# Altium schematic symbol library LCD_Screen_16x2.SchLib: 2 symbols
Pins are listed as number, name and electrical type; pins without a type are passive.

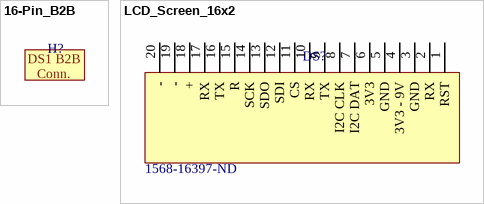
[diagram p0: symbols 16-Pin_B2B to LCD_Screen_16x2]

## 16-Pin_B2B
designator H?  (value not drawn)  (mechanical)
Mechanical Part DW-16-07-T-S-200 for use as board to board connector for DS1; Manufacturer 1: Samtec Inc.; Supplier 1: Mouser; Supplier Part Number 1: 200-DW1607TS200; Supplier 2: DigiKey; Supplier Part Number 2: DW-16-07-T-S-200-ND; Manufacturer Product Number 1: DW-16-07-T-S-200
text: DS1 B2B Conn.

## LCD_Screen_16x2
designator DS?  Supplier Part Number 1: 1568-16397-ND  (hidden comment: *)
SPARKFUN 16X2 SERLCD - RGB TEXT; Manufacturer: SparkFun Electronics; Manufacturer Product Number: 16397; Supplier 1: Digi-Key
footprint LCD_Screen_16x2 (SPARKFUN 16X2 SERLCD - RGB TEXT)
pins: 1 RST, 2 RX, 3 GND, 4 3V3 - 9V, 5 GND, 6 3V3, 7 I2C DAT, 8 I2C CLK, 9 TX, 10 RX, 11 CS, 12 SDI, 13 SDO, 14 SCK, 15 R, 16 TX, 17 RX, 18 +, 19 -, 20 -